# EAGLE library part NKK_GW_SERIES (library my_parts)
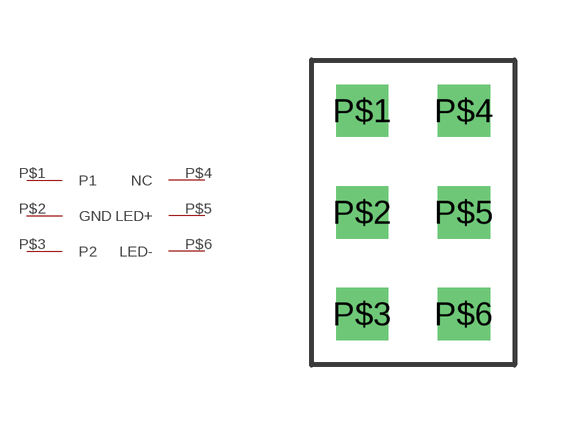
[diagram p2: symbol with the pads of NKK_GW_SERIES; footprint NKK_GW_SERIES]

Designator prefix -

## NKK_GW_SERIES  [NKK_GW_SERIES]
P$1  P1
P$2  GND
P$3  P2
P$4  NC
P$5  LED+
P$6  LED-

## Footprint NKK_GW_SERIES (pad centres in mm)
drill 0.8 square: P$1 -1.27,2.54; P$2 -1.27,0; P$3 -1.27,-2.54; P$4 1.27,2.54; P$5 1.27,0; P$6 1.27,-2.54